# EAGLE library part XFL6 (library custom_parts)
Block FL6 6W transmormer, triple output
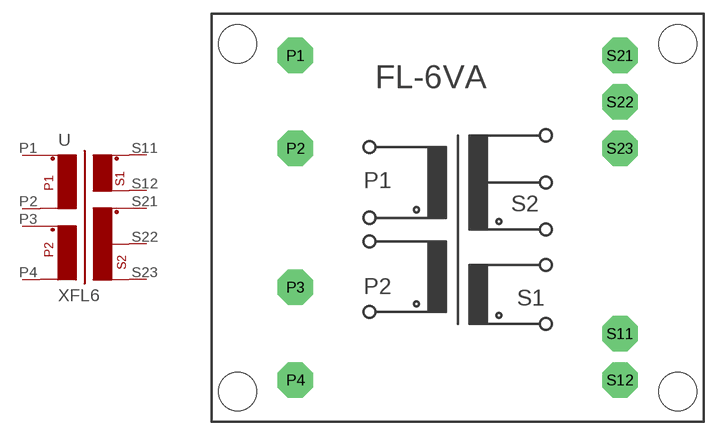
[diagram p22: symbol with the pads of FL6; footprint FL6]

Designator prefix -

## XFL6  [FL6]
P1  P1  pas
P2  P2  pas
P3  P3  pas
P4  P4  pas
S11  S11  pas
S12  S12  pas
S21  S21  pas
S22  S22  pas
S23  S23  pas

## Footprint FL6 (pad centres in mm)
TRANSFORMER 2 primary winding, 2 secondary windings, mounting holes
drill 1.194 pad 3.81 octagon: P1 -17.501,17.501; P2 -17.501,7.493; P3 -17.501,-7.493; P4 -17.501,-17.501; S11 17.501,-12.497; S12 17.501,-17.501; S21 17.501,17.501; S22 17.501,12.497; S23 17.501,7.493
hole 4.115 at 23.749,18.745
hole 4.115 at 23.749,-18.745
hole 4.115 at -23.749,-18.745
hole 4.115 at -23.749,18.745